# EAGLE library part MAX31856 (library PP_AnalogIC)
Manufacturer Part #: MAX31856 Manufacturer: Maxim Integrated Description: Sensor Interface Precision Thermocouple to Digital Converter with Linearization
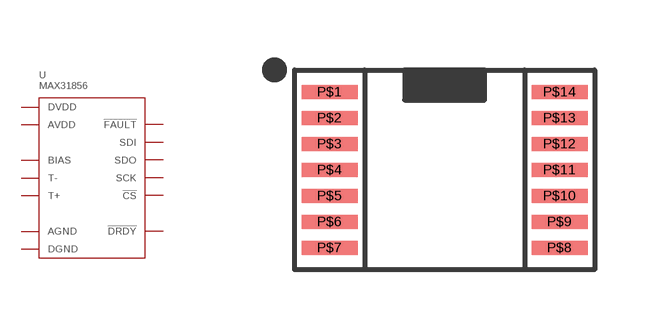
[diagram p6: symbol with the pads of MAX31856_TTSOP-14; footprint MAX31856_TTSOP-14]

Designator prefix U

## MAX31856MUD+ (POPULATE: 1)  [MAX31856_TTSOP-14]
P$1  AGND
P$2  BIAS
P$3  T-
P$4  T+
P$5  AVDD
P$7  !DRDY
P$8  DVDD
P$9  !CS
P$10  SCK
P$11  SDO
P$12  SDI
P$13  !FAULT
P$14  DGND

## Footprint MAX31856_TTSOP-14 (pad centres in mm)
smd 1.4 x 0.35: P$1 -2.875,1.95; P$2 -2.875,1.3; P$3 -2.875,0.65; P$4 -2.875,0; P$5 -2.875,-0.65; P$6 -2.875,-1.3; P$7 -2.875,-1.95; P$8 2.875,-1.95; P$9 2.875,-1.3; P$10 2.875,-0.65; P$11 2.875,0; P$12 2.875,0.65; P$13 2.875,1.3; P$14 2.875,1.95